# Altium footprint library PcbLib2.PcbLib: 39 footprints (part 1 of 3)
Each footprint in its own frame and in the unit in brackets; x right, y up, seen from the top. Pads: shape width x height; smd on the part's side, far side on the other; paste and mask are expansions set on the pad; w line width, h text height; cw(c..) or ccw(c..) is an arc to the next point about the centre after c.
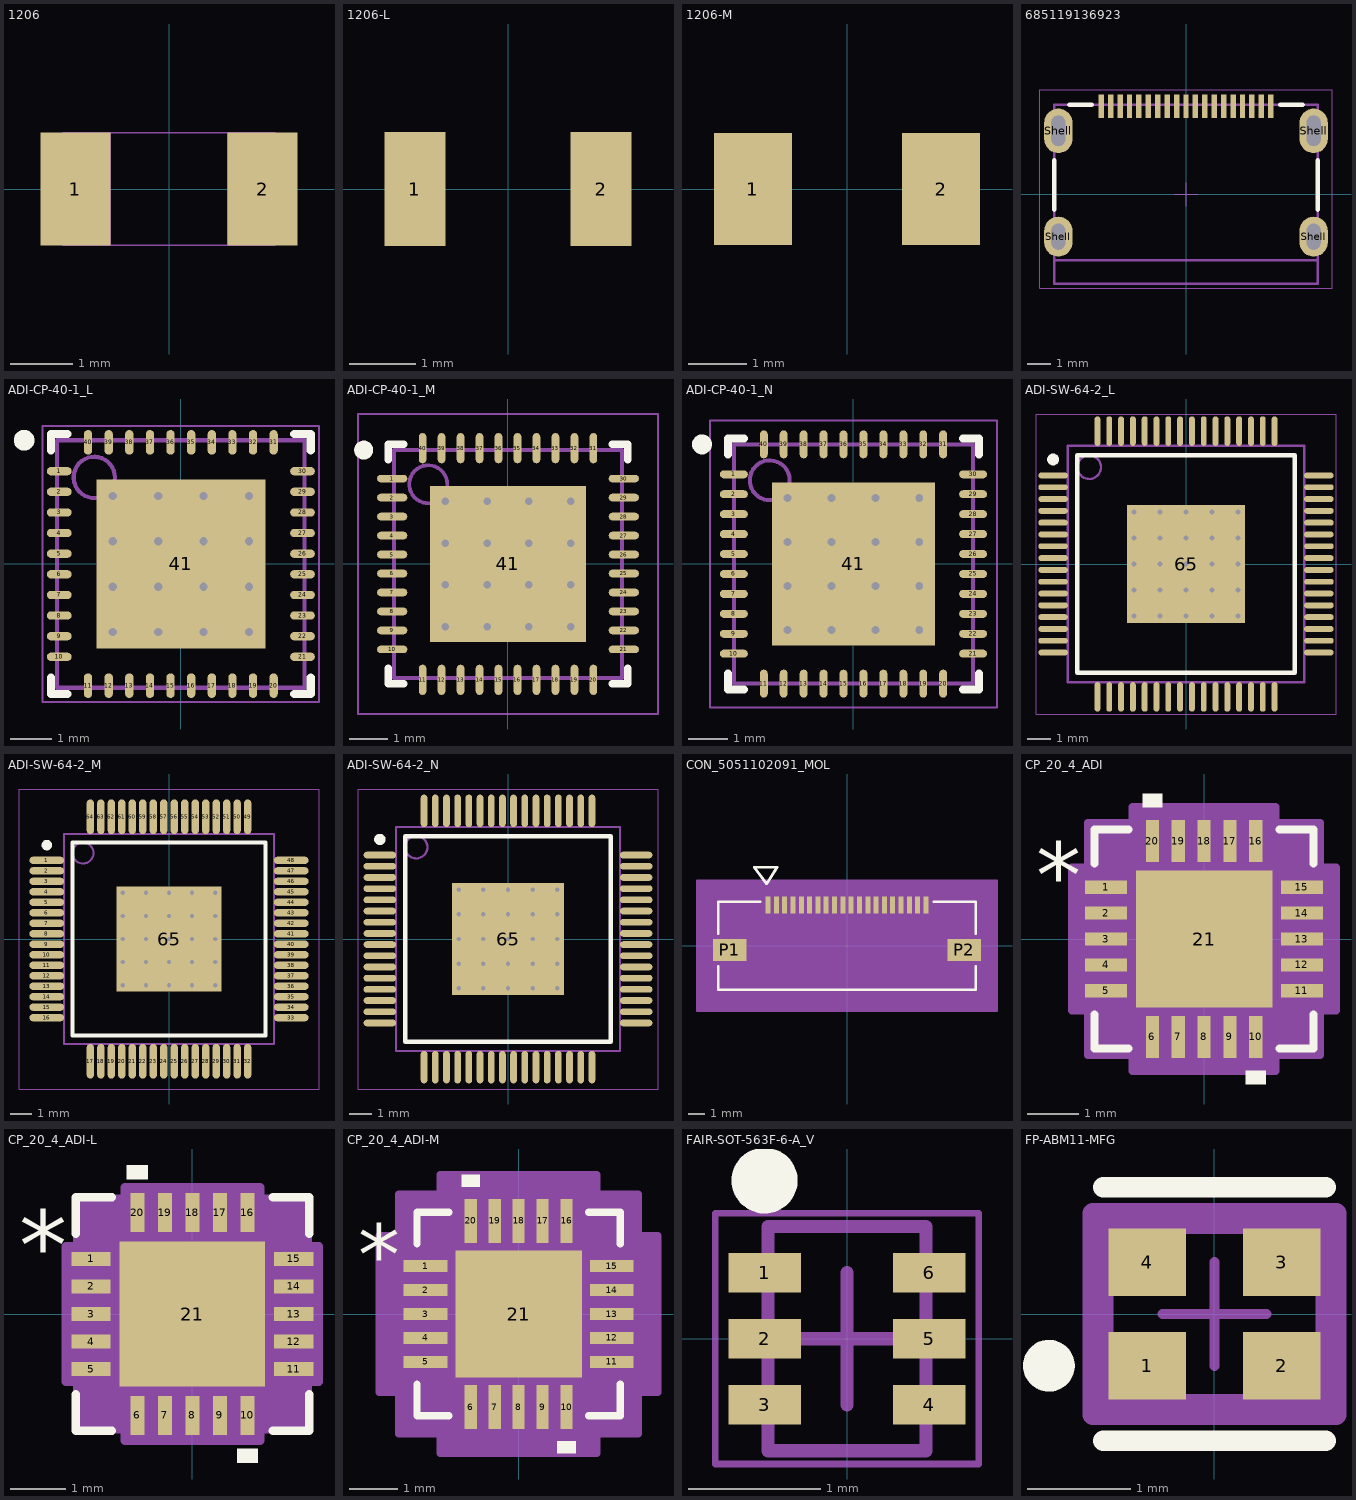
[diagram p0: the footprints below, top view; thin cyan lines are the x and y axes]

## 1206 [mil]
pads (2):
  rect 44x71 smd paste+0 mask+0: 1(-59,0) 2(59,0)
Top 3D Body:
  circle w0: c-54,0 r3
  lines w1: -67,-35.5 -67,35.5 ; -67,-35.5 67,-35.5 ; -67,-35.5 -37,-35.5 -37,35.5 -67,35.5 ; -67,-35.5 -67,35.5 ; -67,35.5 67,35.5 ; 67,-35.5 67,35.5 ; 67,-35.5 67,35.5 ; 67,-35.5 37,-35.5 37,35.5 67,35.5
3D body: height 10, standoff 0, extent 0,0 10,10
3D body "cap1206.STEP": height 67.72, standoff -0.79, extent -62.99,-33.47 62.99,33.47

## 1206-L [mil]
pads (2):
  rect 36x67 smd paste+0 mask+0: 1(-55,0) 2(55,0)
3D body: height 10, standoff 0, extent 0,0 10,10
3D body "cap1206.STEP": height 67.72, standoff -0.79, extent -62.99,-33.47 62.99,33.47

## 1206-M [mil]
pads (2):
  rect 52x75 smd paste+0 mask+0: 1(-63,0) 2(63,0)
3D body "cap1206.STEP": height 67.72, standoff -0.79, extent -62.99,-33.47 62.99,33.47
3D body: height 10, standoff 0, extent 0,0 10,10

## 685119136923 [mm] "Mini HDMI SMT Horizontal"
height 3.3
pads (23):
  rect 0.23x1 smd: 1(3.6,3.75) 2(3.2,3.75) 3(2.8,3.75) 4(2.4,3.75) 5(2,3.75) 6(1.6,3.75) 7(1.2,3.75) 8(0.8,3.75) 9(0.4,3.75) 10(0,3.75) 11(-0.4,3.75) 12(-0.8,3.75) 13(-1.2,3.75) 14(-1.6,3.75) 15(-2,3.75) 16(-2.4,3.75) 17(-2.8,3.75) 18(-3.2,3.75) 19(-3.6,3.75)
  oval 1.2x1.7 hole 0.6 slot 1.1 at 90 deg: Shell(-5.425,-1.8) Shell(5.425,-1.8)
  oval 1.2x1.9 hole 0.6 slot 1.3 at 90 deg: Shell(-5.425,2.7) Shell(5.425,2.7)
Top Overlay:
  lines w0.2: -5.6,-0.65 -5.6,1.45 ; -4.95,3.8 -4,3.8 ; 4,3.8 4.95,3.8 ; 5.6,-0.65 5.6,1.45
Mechanical 2:
  lines w0.1: -5.6,-2.8 5.6,-2.8
  text "PCB Edge" at -1.831,-3.706 h0.61
Top Designator:
  text ".Designator" at -7.498,-0.5 h1.5
Top Component Outline:
  lines w0.1: -5.6,-3.8 5.6,-3.8 5.6,3.8 -5.6,3.8 -5.6,-3.8
Top Courtyard:
  lines w0.05: -0.5,0 0.5,0 ; 0,-0.5 0,0.5 ; -6.225,-4 6.225,-4 6.225,4.45 -6.225,4.45 -6.225,-4
3D body "685119136923.stp": height 3.3, standoff -2.15, extent -5.625,-3.8 5.625,4.102

## ADI-CP-40-1_L [mm] "QFN, 40-Leads, Body 6x6mm, Pitch 0.5mm, Thermal Pad 4.1x4.1mm, IPC High Density"
height 1
pads (41):
  oval 0.6x0.2 smd: 1(-2.95,2.25) 2(-2.95,1.75) 3(-2.95,1.25) 4(-2.95,0.75) 5(-2.95,0.25) 6(-2.95,-0.25) 7(-2.95,-0.75) 8(-2.95,-1.25) 9(-2.95,-1.75) 10(-2.95,-2.25) 21(2.95,-2.25) 22(2.95,-1.75) 23(2.95,-1.25) 24(2.95,-0.75) 25(2.95,-0.25) 26(2.95,0.25) 27(2.95,0.75) 28(2.95,1.25) 29(2.95,1.75) 30(2.95,2.25)
  oval 0.2x0.6 smd: 11(-2.25,-2.95) 12(-1.75,-2.95) 13(-1.25,-2.95) 14(-0.75,-2.95) 15(-0.25,-2.95) 16(0.25,-2.95) 17(0.75,-2.95) 18(1.25,-2.95) 19(1.75,-2.95) 20(2.25,-2.95) 31(2.25,2.95) 32(1.75,2.95) 33(1.25,2.95) 34(0.75,2.95) 35(0.25,2.95) 36(-0.25,2.95) 37(-0.75,2.95) 38(-1.25,2.95) 39(-1.75,2.95) 40(-2.25,2.95)
  rect 4.1x4.1 smd: 41(0,0)
via 1.65,-1.65 diameter 0.5 hole 0.2
via 0.55,-1.65 diameter 0.5 hole 0.2
via -0.55,-1.65 diameter 0.5 hole 0.2
via -1.65,-1.65 diameter 0.5 hole 0.2
via 1.65,-0.55 diameter 0.5 hole 0.2
via 0.55,-0.55 diameter 0.5 hole 0.2
via -0.55,-0.55 diameter 0.5 hole 0.2
via -1.65,-0.55 diameter 0.5 hole 0.2
via 1.65,0.55 diameter 0.5 hole 0.2
via 0.55,0.55 diameter 0.5 hole 0.2
via -0.55,0.55 diameter 0.5 hole 0.2
via -1.65,0.55 diameter 0.5 hole 0.2
via 1.65,1.65 diameter 0.5 hole 0.2
via 0.55,1.65 diameter 0.5 hole 0.2
via -0.55,1.65 diameter 0.5 hole 0.2
via -1.65,1.65 diameter 0.5 hole 0.2
Top Overlay:
  circle w0.25: c-3.8,3 r0.125
  lines w0.2: -3.15,-2.75 -3.15,-3.15 -2.75,-3.15 ; -3.15,2.75 -3.15,3.15 -2.75,3.15 ; 2.75,-3.15 3.15,-3.15 3.15,-2.75 ; 2.75,3.15 3.15,3.15 3.15,2.75
Top 3D Body:
  circle w0.1: c-2.1,2.1 r0.5
  lines w0.1: -3,-3 3,-3 3,3 -3,3 -3,-3
Top Courtyard:
  lines w0.05: -3.35,-3.35 3.35,-3.35 3.35,3.35 -3.35,3.35 -3.35,-3.35
  lines w0.1: -0.5,0 0.5,0 ; 0,-0.5 0,0.5
3D body: height 1, standoff 0, extent -3,-3 3,3

## ADI-CP-40-1_M [mm] "QFN, 40-Leads, Body 6x6mm, Pitch 0.5mm, Thermal Pad 4.1x4.1mm, IPC Low Density"
height 1
pads (41):
  oval 0.8x0.2 smd: 1(-3.05,2.25) 2(-3.05,1.75) 3(-3.05,1.25) 4(-3.05,0.75) 5(-3.05,0.25) 6(-3.05,-0.25) 7(-3.05,-0.75) 8(-3.05,-1.25) 9(-3.05,-1.75) 10(-3.05,-2.25) 21(3.05,-2.25) 22(3.05,-1.75) 23(3.05,-1.25) 24(3.05,-0.75) 25(3.05,-0.25) 26(3.05,0.25) 27(3.05,0.75) 28(3.05,1.25) 29(3.05,1.75) 30(3.05,2.25)
  oval 0.2x0.8 smd: 11(-2.25,-3.05) 12(-1.75,-3.05) 13(-1.25,-3.05) 14(-0.75,-3.05) 15(-0.25,-3.05) 16(0.25,-3.05) 17(0.75,-3.05) 18(1.25,-3.05) 19(1.75,-3.05) 20(2.25,-3.05) 31(2.25,3.05) 32(1.75,3.05) 33(1.25,3.05) 34(0.75,3.05) 35(0.25,3.05) 36(-0.25,3.05) 37(-0.75,3.05) 38(-1.25,3.05) 39(-1.75,3.05) 40(-2.25,3.05)
  rect 4.1x4.1 smd: 41(0,0)
via -1.65,1.65 diameter 0.5 hole 0.2
via -0.55,1.65 diameter 0.5 hole 0.2
via 0.55,1.65 diameter 0.5 hole 0.2
via 1.65,1.65 diameter 0.5 hole 0.2
via -1.65,0.55 diameter 0.5 hole 0.2
via -0.55,0.55 diameter 0.5 hole 0.2
via 0.55,0.55 diameter 0.5 hole 0.2
via 1.65,0.55 diameter 0.5 hole 0.2
via -1.65,-0.55 diameter 0.5 hole 0.2
via -0.55,-0.55 diameter 0.5 hole 0.2
via 0.55,-0.55 diameter 0.5 hole 0.2
via 1.65,-0.55 diameter 0.5 hole 0.2
via -1.65,-1.65 diameter 0.5 hole 0.2
via -0.55,-1.65 diameter 0.5 hole 0.2
via 0.55,-1.65 diameter 0.5 hole 0.2
via 1.65,-1.65 diameter 0.5 hole 0.2
Top Overlay:
  circle w0.25: c-3.8,3 r0.125
  lines w0.2: -3.15,-2.75 -3.15,-3.15 -2.75,-3.15 ; -3.15,2.75 -3.15,3.15 -2.75,3.15 ; 2.75,-3.15 3.15,-3.15 3.15,-2.75 ; 2.75,3.15 3.15,3.15 3.15,2.75
Top 3D Body:
  circle w0.1: c-2.1,2.1 r0.5
  lines w0.1: -3,-3 -3,3 3,3 3,-3 -3,-3
Top Courtyard:
  lines w0.05: -3.95,-3.95 -3.95,3.95 3.95,3.95 3.95,-3.95 -3.95,-3.95
  lines w0.1: -0.5,0 0.5,0 ; 0,-0.5 0,0.5
3D body: height 1, standoff 0, extent -3,-3 3,3

## ADI-CP-40-1_N [mm] "QFN, 40-Leads, Body 6x6mm, Pitch 0.5mm, Thermal Pad 4.1x4.1mm, IPC Medium Density"
height 1
pads (41):
  oval 0.7x0.2 smd: 1(-3,2.25) 2(-3,1.75) 3(-3,1.25) 4(-3,0.75) 5(-3,0.25) 6(-3,-0.25) 7(-3,-0.75) 8(-3,-1.25) 9(-3,-1.75) 10(-3,-2.25) 21(3,-2.25) 22(3,-1.75) 23(3,-1.25) 24(3,-0.75) 25(3,-0.25) 26(3,0.25) 27(3,0.75) 28(3,1.25) 29(3,1.75) 30(3,2.25)
  oval 0.2x0.7 smd: 11(-2.25,-3) 12(-1.75,-3) 13(-1.25,-3) 14(-0.75,-3) 15(-0.25,-3) 16(0.25,-3) 17(0.75,-3) 18(1.25,-3) 19(1.75,-3) 20(2.25,-3) 31(2.25,3) 32(1.75,3) 33(1.25,3) 34(0.75,3) 35(0.25,3) 36(-0.25,3) 37(-0.75,3) 38(-1.25,3) 39(-1.75,3) 40(-2.25,3)
  rect 4.1x4.1 smd: 41(0,0)
via 1.65,-1.65 diameter 0.5 hole 0.2
via 0.55,-1.65 diameter 0.5 hole 0.2
via -0.55,-1.65 diameter 0.5 hole 0.2
via -1.65,-1.65 diameter 0.5 hole 0.2
via 1.65,-0.55 diameter 0.5 hole 0.2
via 0.55,-0.55 diameter 0.5 hole 0.2
via -0.55,-0.55 diameter 0.5 hole 0.2
via -1.65,-0.55 diameter 0.5 hole 0.2
via 1.65,0.55 diameter 0.5 hole 0.2
via 0.55,0.55 diameter 0.5 hole 0.2
via -0.55,0.55 diameter 0.5 hole 0.2
via -1.65,0.55 diameter 0.5 hole 0.2
via 1.65,1.65 diameter 0.5 hole 0.2
via 0.55,1.65 diameter 0.5 hole 0.2
via -0.55,1.65 diameter 0.5 hole 0.2
via -1.65,1.65 diameter 0.5 hole 0.2
Top Overlay:
  circle w0.25: c-3.8,3 r0.125
  lines w0.2: -3.15,-2.75 -3.15,-3.15 -2.75,-3.15 ; -3.15,2.75 -3.15,3.15 -2.75,3.15 ; 2.75,-3.15 3.15,-3.15 3.15,-2.75 ; 2.75,3.15 3.15,3.15 3.15,2.75
Top 3D Body:
  circle w0.1: c-2.1,2.1 r0.5
  lines w0.1: -3,-3 3,-3 3,3 -3,3 -3,-3
Top Courtyard:
  lines w0.05: -3.6,-3.6 3.6,-3.6 3.6,3.6 -3.6,3.6 -3.6,-3.6
  lines w0.1: -0.5,0 0.5,0 ; 0,-0.5 0,0.5
3D body: height 1, standoff 0, extent -3,-3 3,3

## ADI-SW-64-2_L [mm] "LQFP, 64-Leads, Body 10.00x10.00mm, Pitch 0.50mm, Thermal Pad 5x5mm, IPC High Density"
height 1.6
pads (65):
  oval 1.25x0.25 smd: 1(-5.625,3.75) 2(-5.625,3.25) 3(-5.625,2.75) 4(-5.625,2.25) 5(-5.625,1.75) 6(-5.625,1.25) 7(-5.625,0.75) 8(-5.625,0.25) 9(-5.625,-0.25) 10(-5.625,-0.75) 11(-5.625,-1.25) 12(-5.625,-1.75) 13(-5.625,-2.25) 14(-5.625,-2.75) 15(-5.625,-3.25) 16(-5.625,-3.75) 33(5.625,-3.75) 34(5.625,-3.25) 35(5.625,-2.75) 36(5.625,-2.25) 37(5.625,-1.75) 38(5.625,-1.25) 39(5.625,-0.75) 40(5.625,-0.25) 41(5.625,0.25) 42(5.625,0.75) 43(5.625,1.25) 44(5.625,1.75) 45(5.625,2.25) 46(5.625,2.75) 47(5.625,3.25) 48(5.625,3.75)
  oval 0.25x1.25 smd: 17(-3.75,-5.625) 18(-3.25,-5.625) 19(-2.75,-5.625) 20(-2.25,-5.625) 21(-1.75,-5.625) 22(-1.25,-5.625) 23(-0.75,-5.625) 24(-0.25,-5.625) 25(0.25,-5.625) 26(0.75,-5.625) 27(1.25,-5.625) 28(1.75,-5.625) 29(2.25,-5.625) 30(2.75,-5.625) 31(3.25,-5.625) 32(3.75,-5.625) 49(3.75,5.625) 50(3.25,5.625) 51(2.75,5.625) 52(2.25,5.625) 53(1.75,5.625) 54(1.25,5.625) 55(0.75,5.625) 56(0.25,5.625) 57(-0.25,5.625) 58(-0.75,5.625) 59(-1.25,5.625) 60(-1.75,5.625) 61(-2.25,5.625) 62(-2.75,5.625) 63(-3.25,5.625) 64(-3.75,5.625)
  rect 5x5 smd: 65(0,0)
via -2.2,2.2 diameter 0.5 hole 0.2
via -1.1,2.2 diameter 0.5 hole 0.2
via 0,2.2 diameter 0.5 hole 0.2
via 1.1,2.2 diameter 0.5 hole 0.2
via 2.2,2.2 diameter 0.5 hole 0.2
via -2.2,1.1 diameter 0.5 hole 0.2
via -1.1,1.1 diameter 0.5 hole 0.2
via 0,1.1 diameter 0.5 hole 0.2
via 1.1,1.1 diameter 0.5 hole 0.2
via 2.2,1.1 diameter 0.5 hole 0.2
via -2.2,0 diameter 0.5 hole 0.2
via -1.1,0 diameter 0.5 hole 0.2
via 0,0 diameter 0.5 hole 0.2
via 1.1,0 diameter 0.5 hole 0.2
via 2.2,0 diameter 0.5 hole 0.2
via -2.2,-1.1 diameter 0.5 hole 0.2
via -1.1,-1.1 diameter 0.5 hole 0.2
via 0,-1.1 diameter 0.5 hole 0.2
via 1.1,-1.1 diameter 0.5 hole 0.2
via 2.2,-1.1 diameter 0.5 hole 0.2
via -2.2,-2.2 diameter 0.5 hole 0.2
via -1.1,-2.2 diameter 0.5 hole 0.2
via 0,-2.2 diameter 0.5 hole 0.2
via 1.1,-2.2 diameter 0.5 hole 0.2
via 2.2,-2.2 diameter 0.5 hole 0.2
Top Overlay:
  circle w0.25: c-5.625,4.425 r0.125
  lines w0.2: -4.6,-4.6 -4.6,4.6 4.6,4.6 4.6,-4.6 -4.6,-4.6
Top 3D Body:
  circle w0.1: c-4.1,4.1 r0.5
  lines w0.1: -5,-5 -5,5 5,5 5,-5 -5,-5
Top Courtyard:
  lines w0.05: -6.35,-6.35 -6.35,6.35 6.35,6.35 6.35,-6.35 -6.35,-6.35
  lines w0.1: -0.5,0 0.5,0 ; 0,-0.5 0,0.5
3D body: height 1.6, standoff 0.05, extent -5,-5 5,5

## ADI-SW-64-2_M [mm] "LQFP, 64-Leads, Body 10.00x10.00mm, Pitch 0.50mm, Thermal Pad 5x5mm, IPC Low Density"
height 1.6
pads (65):
  oval 1.65x0.35 smd: 1(-5.825,3.75) 2(-5.825,3.25) 3(-5.825,2.75) 4(-5.825,2.25) 5(-5.825,1.75) 6(-5.825,1.25) 7(-5.825,0.75) 8(-5.825,0.25) 9(-5.825,-0.25) 10(-5.825,-0.75) 11(-5.825,-1.25) 12(-5.825,-1.75) 13(-5.825,-2.25) 14(-5.825,-2.75) 15(-5.825,-3.25) 16(-5.825,-3.75) 33(5.825,-3.75) 34(5.825,-3.25) 35(5.825,-2.75) 36(5.825,-2.25) 37(5.825,-1.75) 38(5.825,-1.25) 39(5.825,-0.75) 40(5.825,-0.25) 41(5.825,0.25) 42(5.825,0.75) 43(5.825,1.25) 44(5.825,1.75) 45(5.825,2.25) 46(5.825,2.75) 47(5.825,3.25) 48(5.825,3.75)
  oval 0.35x1.65 smd: 17(-3.75,-5.825) 18(-3.25,-5.825) 19(-2.75,-5.825) 20(-2.25,-5.825) 21(-1.75,-5.825) 22(-1.25,-5.825) 23(-0.75,-5.825) 24(-0.25,-5.825) 25(0.25,-5.825) 26(0.75,-5.825) 27(1.25,-5.825) 28(1.75,-5.825) 29(2.25,-5.825) 30(2.75,-5.825) 31(3.25,-5.825) 32(3.75,-5.825) 49(3.75,5.825) 50(3.25,5.825) 51(2.75,5.825) 52(2.25,5.825) 53(1.75,5.825) 54(1.25,5.825) 55(0.75,5.825) 56(0.25,5.825) 57(-0.25,5.825) 58(-0.75,5.825) 59(-1.25,5.825) 60(-1.75,5.825) 61(-2.25,5.825) 62(-2.75,5.825) 63(-3.25,5.825) 64(-3.75,5.825)
  rect 5x5 smd: 65(0,0)
via -2.2,2.2 diameter 0.5 hole 0.2
via -1.1,2.2 diameter 0.5 hole 0.2
via 0,2.2 diameter 0.5 hole 0.2
via 1.1,2.2 diameter 0.5 hole 0.2
via 2.2,2.2 diameter 0.5 hole 0.2
via -2.2,1.1 diameter 0.5 hole 0.2
via -1.1,1.1 diameter 0.5 hole 0.2
via 0,1.1 diameter 0.5 hole 0.2
via 1.1,1.1 diameter 0.5 hole 0.2
via 2.2,1.1 diameter 0.5 hole 0.2
via -2.2,0 diameter 0.5 hole 0.2
via -1.1,0 diameter 0.5 hole 0.2
via 0,0 diameter 0.5 hole 0.2
via 1.1,0 diameter 0.5 hole 0.2
via 2.2,0 diameter 0.5 hole 0.2
via -2.2,-1.1 diameter 0.5 hole 0.2
via -1.1,-1.1 diameter 0.5 hole 0.2
via 0,-1.1 diameter 0.5 hole 0.2
via 1.1,-1.1 diameter 0.5 hole 0.2
via 2.2,-1.1 diameter 0.5 hole 0.2
via -2.2,-2.2 diameter 0.5 hole 0.2
via -1.1,-2.2 diameter 0.5 hole 0.2
via 0,-2.2 diameter 0.5 hole 0.2
via 1.1,-2.2 diameter 0.5 hole 0.2
via 2.2,-2.2 diameter 0.5 hole 0.2
Top Overlay:
  circle w0.25: c-5.825,4.475 r0.125
  lines w0.2: -4.6,-4.6 -4.6,4.6 4.6,4.6 4.6,-4.6 -4.6,-4.6
Top 3D Body:
  circle w0.1: c-4.1,4.1 r0.5
  lines w0.1: -5,-5 -5,5 5,5 5,-5 -5,-5
Top Courtyard:
  lines w0.05: -7.15,-7.15 -7.15,7.15 7.15,7.15 7.15,-7.15 -7.15,-7.15
  lines w0.1: -0.5,0 0.5,0 ; 0,-0.5 0,0.5
3D body: height 1.6, standoff 0.05, extent -5,-5 5,5

## ADI-SW-64-2_N [mm] "LQFP, 64-Leads, Body 10.00x10.00mm, Pitch 0.50mm, Thermal Pad 5x5mm, IPC Medium Density"
height 1.6
pads (65):
  oval 1.45x0.3 smd: 1(-5.725,3.75) 2(-5.725,3.25) 3(-5.725,2.75) 4(-5.725,2.25) 5(-5.725,1.75) 6(-5.725,1.25) 7(-5.725,0.75) 8(-5.725,0.25) 9(-5.725,-0.25) 10(-5.725,-0.75) 11(-5.725,-1.25) 12(-5.725,-1.75) 13(-5.725,-2.25) 14(-5.725,-2.75) 15(-5.725,-3.25) 16(-5.725,-3.75) 33(5.725,-3.75) 34(5.725,-3.25) 35(5.725,-2.75) 36(5.725,-2.25) 37(5.725,-1.75) 38(5.725,-1.25) 39(5.725,-0.75) 40(5.725,-0.25) 41(5.725,0.25) 42(5.725,0.75) 43(5.725,1.25) 44(5.725,1.75) 45(5.725,2.25) 46(5.725,2.75) 47(5.725,3.25) 48(5.725,3.75)
  oval 0.3x1.45 smd: 17(-3.75,-5.725) 18(-3.25,-5.725) 19(-2.75,-5.725) 20(-2.25,-5.725) 21(-1.75,-5.725) 22(-1.25,-5.725) 23(-0.75,-5.725) 24(-0.25,-5.725) 25(0.25,-5.725) 26(0.75,-5.725) 27(1.25,-5.725) 28(1.75,-5.725) 29(2.25,-5.725) 30(2.75,-5.725) 31(3.25,-5.725) 32(3.75,-5.725) 49(3.75,5.725) 50(3.25,5.725) 51(2.75,5.725) 52(2.25,5.725) 53(1.75,5.725) 54(1.25,5.725) 55(0.75,5.725) 56(0.25,5.725) 57(-0.25,5.725) 58(-0.75,5.725) 59(-1.25,5.725) 60(-1.75,5.725) 61(-2.25,5.725) 62(-2.75,5.725) 63(-3.25,5.725) 64(-3.75,5.725)
  rect 5x5 smd: 65(0,0)
via -2.2,2.2 diameter 0.5 hole 0.2
via -1.1,2.2 diameter 0.5 hole 0.2
via 0,2.2 diameter 0.5 hole 0.2
via 1.1,2.2 diameter 0.5 hole 0.2
via 2.2,2.2 diameter 0.5 hole 0.2
via -2.2,1.1 diameter 0.5 hole 0.2
via -1.1,1.1 diameter 0.5 hole 0.2
via 0,1.1 diameter 0.5 hole 0.2
via 1.1,1.1 diameter 0.5 hole 0.2
via 2.2,1.1 diameter 0.5 hole 0.2
via -2.2,0 diameter 0.5 hole 0.2
via -1.1,0 diameter 0.5 hole 0.2
via 0,0 diameter 0.5 hole 0.2
via 1.1,0 diameter 0.5 hole 0.2
via 2.2,0 diameter 0.5 hole 0.2
via -2.2,-1.1 diameter 0.5 hole 0.2
via -1.1,-1.1 diameter 0.5 hole 0.2
via 0,-1.1 diameter 0.5 hole 0.2
via 1.1,-1.1 diameter 0.5 hole 0.2
via 2.2,-1.1 diameter 0.5 hole 0.2
via -2.2,-2.2 diameter 0.5 hole 0.2
via -1.1,-2.2 diameter 0.5 hole 0.2
via 0,-2.2 diameter 0.5 hole 0.2
via 1.1,-2.2 diameter 0.5 hole 0.2
via 2.2,-2.2 diameter 0.5 hole 0.2
Top Overlay:
  circle w0.25: c-5.725,4.45 r0.125
  lines w0.2: -4.6,-4.6 -4.6,4.6 4.6,4.6 4.6,-4.6 -4.6,-4.6
Top 3D Body:
  circle w0.1: c-4.1,4.1 r0.5
  lines w0.1: -5,-5 -5,5 5,5 5,-5 -5,-5
Top Courtyard:
  lines w0.05: -6.7,-6.7 -6.7,6.7 6.7,6.7 6.7,-6.7 -6.7,-6.7
  lines w0.1: -0.5,0 0.5,0 ; 0,-0.5 0,0.5
3D body: height 1.6, standoff 0.05, extent -5,-5 5,5

## CON_5051102091_MOL [mm]
pads (22):
  rect 0.3x1 smd paste+0 mask+0.025: 1(-4.75,2.45) 2(-4.25,2.45) 3(-3.75,2.45) 4(-3.25,2.45) 5(-2.75,2.45) 6(-2.25,2.45) 7(-1.75,2.45) 8(-1.25,2.45) 9(-0.75,2.45) 10(-0.25,2.45) 11(0.25,2.45) 12(0.75,2.45) 13(1.25,2.45) 14(1.75,2.45) 15(2.25,2.45) 16(2.75,2.45) 17(3.25,2.45) 18(3.75,2.45) 19(4.25,2.45) 20(4.75,2.45)
  rect 2x1.3 smd paste+0 mask+0.025: P1(-7.05,-0.25) P2(7.05,-0.25)
Top Overlay:
  lines w0.152: -7.75,-1.22 -7.75,-2.65 7.75,-2.65 7.75,-1.22 ; -7.75,0.72 -7.75,2.65 -5.22,2.65 ; 5.22,2.65 7.75,2.65 7.75,0.72 ; -5.591,4.736 -4.829,3.72 -4.194,4.736 -5.591,4.736
Top 3D Body:
  lines w0.127: -7.75,-2.65 -7.75,2.65 7.75,2.65 7.75,-2.65 -7.75,-2.65 ; -5.591,4.736 -4.829,3.72 -4.194,4.736 -5.591,4.736
Top Courtyard:
  region: 9.02,3.92 -9.02,3.92 -9.02,-3.92 9.02,-3.92
  region: 9.02,3.92 -9.02,3.92 -9.02,-3.92 9.02,-3.92
  lines w0.127: -9.02,-3.92 9.02,-3.92 ; -9.02,-3.92 -9.02,3.92 ; -9.02,-3.92 9.02,-3.92 ; -9.02,-3.92 -9.02,3.92 ; -9.02,3.92 9.02,3.92 ; -9.02,3.92 9.02,3.92 ; 9.02,-3.92 9.02,3.92 ; 9.02,-3.92 9.02,3.92

## CP_20_4_ADI [mil]
pads (21):
  rect 32x10 smd paste+0 mask+0: 1(-74.5,39.37) 2(-74.5,19.68) 3(-74.5,0) 4(-74.5,-19.68) 5(-74.5,-39.37) 11(74.5,-39.37) 12(74.5,-19.68) 13(74.5,0) 14(74.5,19.68) 15(74.5,39.37)
  rect 10x32 smd paste+0 mask+0: 6(-39.37,-74.5) 7(-19.68,-74.5) 8(0,-74.5) 9(19.68,-74.5) 10(39.37,-74.5) 16(39.37,74.5) 17(19.68,74.5) 18(0,74.5) 19(-19.68,74.5) 20(-39.37,74.5)
  rect 104x104 smd paste-52 mask+0: 21(0,0)
Top Overlay:
  region: 46.87,-100.5 31.87,-100.5 31.87,-110.5 46.87,-110.5
  region: -31.87,100.5 -46.87,100.5 -46.87,110.5 -31.87,110.5
  lines w6: -83.5,-57.47 -83.5,-83.5 -57.47,-83.5 ; -83.5,57.47 -83.5,83.5 -57.47,83.5 ; 57.47,-83.5 83.5,-83.5 83.5,-57.47 ; 57.47,83.5 83.5,83.5 83.5,57.47
  text "*" at -128,24.21 h50
Top Paste:
  region: -3.94,48.06 -48.06,48.06 -48.06,3.94 -3.94,3.94
  region: -3.94,-3.94 -48.06,-3.94 -48.06,-48.06 -3.94,-48.06
  region: 48.06,48.06 3.94,48.06 3.94,3.94 48.06,3.94
  region: 48.06,-3.94 3.94,-3.94 3.94,-48.06 48.06,-48.06
Top 3D Body:
  lines w1: -78.5,28.5 -28.5,78.5 ; -78.5,-78.5 78.5,-78.5 78.5,78.5 -78.5,78.5 -78.5,-78.5 ; -78.5,-45.37 -78.5,-33.37 -78.5,-45.37 ; -78.5,-25.68 -78.5,-13.69 -78.5,-25.68 ; -78.5,-6 -78.5,6 -78.5,-6 ; -78.5,13.69 -78.5,25.68 -78.5,13.69 ; -78.5,33.37 -78.5,45.37 -78.5,33.37 ; -45.37,-78.5 -33.37,-78.5 -45.37,-78.5 ; -45.37,78.5 -33.37,78.5 -45.37,78.5 ; -25.68,-78.5 -13.69,-78.5 -25.68,-78.5 ; -25.68,78.5 -13.69,78.5 -25.68,78.5 ; -6,-78.5 6,-78.5 -6,-78.5 ; -6,78.5 6,78.5 -6,78.5 ; 13.69,-78.5 25.68,-78.5 13.69,-78.5 ; 13.69,78.5 25.68,78.5 13.69,78.5 ; 33.37,-78.5 45.37,-78.5 33.37,-78.5 ; 33.37,78.5 45.37,78.5 33.37,78.5 ; 78.5,-45.37 78.5,-33.37 78.5,-45.37 ; 78.5,-25.68 78.5,-13.69 78.5,-25.68 ; 78.5,-6 78.5,6 78.5,-6 ; 78.5,13.69 78.5,25.68 78.5,13.69 ; 78.5,33.37 78.5,45.37 78.5,33.37
  text "*" at -71,24.21 h50
Top Courtyard:
  region: -54.37,-88.5 -88.5,-88.5 -88.5,-54.37 -100.5,-54.37 -100.5,54.37 -88.5,54.37 -88.5,88.5 -54.37,88.5 -54.37,100.5 54.37,100.5 54.37,88.5 88.5,88.5 88.5,54.37 100.5,54.37 100.5,-54.37 88.5,-54.37 88.5,-88.5 54.37,-88.5 54.37,-100.5 -54.37,-100.5
  lines w6: -100.5,-54.37 -88.5,-54.37 -88.5,-88.5 -54.37,-88.5 -54.37,-100.5 54.37,-100.5 54.37,-88.5 88.5,-88.5 88.5,-54.37 100.5,-54.37 100.5,54.37 88.5,54.37 88.5,88.5 54.37,88.5 54.37,100.5 -54.37,100.5 -54.37,88.5 -88.5,88.5 -88.5,54.37 -100.5,54.37 -100.5,-54.37
3D body "CP_20_4_ADI.step": height 39.09, standoff 0, extent -78.5,-78.5 78.5,78.5

## CP_20_4_ADI-L [mil]
pads (21):
  rect 28x10 smd paste+0 mask+0: 1(-72.5,39.37) 2(-72.5,19.68) 3(-72.5,0) 4(-72.5,-19.68) 5(-72.5,-39.37) 11(72.5,-39.37) 12(72.5,-19.68) 13(72.5,0) 14(72.5,19.68) 15(72.5,39.37)
  rect 10x28 smd paste+0 mask+0: 6(-39.37,-72.5) 7(-19.68,-72.5) 8(0,-72.5) 9(19.68,-72.5) 10(39.37,-72.5) 16(39.37,72.5) 17(19.68,72.5) 18(0,72.5) 19(-19.68,72.5) 20(-39.37,72.5)
  rect 104x104 smd paste-52 mask+0: 21(0,0)
Top Overlay:
  region: -31.87,96.5 -46.87,96.5 -46.87,106.5 -31.87,106.5
  region: 46.87,-96.5 31.87,-96.5 31.87,-106.5 46.87,-106.5
  lines w6: -83.5,-57.47 -83.5,-83.5 -57.47,-83.5 ; -83.5,57.47 -83.5,83.5 -57.47,83.5 ; 57.47,-83.5 83.5,-83.5 83.5,-57.47 ; 57.47,83.5 83.5,83.5 83.5,57.47
  text "*" at -124,24.21 h50
Top Paste:
  region: 48.06,-3.94 3.94,-3.94 3.94,-48.06 48.06,-48.06
  region: 48.06,48.06 3.94,48.06 3.94,3.94 48.06,3.94
  region: -3.94,-3.94 -48.06,-3.94 -48.06,-48.06 -3.94,-48.06
  region: -3.94,48.06 -48.06,48.06 -48.06,3.94 -3.94,3.94
Top 3D Body:
  lines w1: -78.5,28.5 -28.5,78.5 ; -78.5,-78.5 -78.5,78.5 78.5,78.5 78.5,-78.5 -78.5,-78.5 ; -78.5,-45.37 -78.5,-33.37 -78.5,-45.37 ; -78.5,-25.68 -78.5,-13.69 -78.5,-25.68 ; -78.5,-6 -78.5,6 -78.5,-6 ; -78.5,13.69 -78.5,25.68 -78.5,13.69 ; -78.5,33.37 -78.5,45.37 -78.5,33.37 ; -45.37,-78.5 -33.37,-78.5 -45.37,-78.5 ; -45.37,78.5 -33.37,78.5 -45.37,78.5 ; -25.68,-78.5 -13.69,-78.5 -25.68,-78.5 ; -25.68,78.5 -13.69,78.5 -25.68,78.5 ; -6,-78.5 6,-78.5 -6,-78.5 ; -6,78.5 6,78.5 -6,78.5 ; 13.69,-78.5 25.68,-78.5 13.69,-78.5 ; 13.69,78.5 25.68,78.5 13.69,78.5 ; 33.37,-78.5 45.37,-78.5 33.37,-78.5 ; 33.37,78.5 45.37,78.5 33.37,78.5 ; 78.5,-45.37 78.5,-33.37 78.5,-45.37 ; 78.5,-25.68 78.5,-13.69 78.5,-25.68 ; 78.5,-6 78.5,6 78.5,-6 ; 78.5,13.69 78.5,25.68 78.5,13.69 ; 78.5,33.37 78.5,45.37 78.5,33.37
  text "*" at -71,24.21 h50
Top Courtyard:
  region: -48.37,-82.5 -82.5,-82.5 -82.5,-48.37 -90.5,-48.37 -90.5,48.37 -82.5,48.37 -82.5,82.5 -48.37,82.5 -48.37,90.5 48.37,90.5 48.37,82.5 82.5,82.5 82.5,48.37 90.5,48.37 90.5,-48.37 82.5,-48.37 82.5,-82.5 48.37,-82.5 48.37,-90.5 -48.37,-90.5
  lines w6: -90.5,-48.37 -90.5,48.37 -82.5,48.37 -82.5,82.5 -48.37,82.5 -48.37,90.5 48.37,90.5 48.37,82.5 82.5,82.5 82.5,48.37 90.5,48.37 90.5,-48.37 82.5,-48.37 82.5,-82.5 48.37,-82.5 48.37,-90.5 -48.37,-90.5 -48.37,-82.5 -82.5,-82.5 -82.5,-48.37 -90.5,-48.37
3D body "CP_20_4_ADI.step": height 39.09, standoff 0, extent -78.5,-78.5 78.5,78.5

## CP_20_4_ADI-M [mil]
pads (21):
  rect 36x10 smd paste+0 mask+0: 1(-76.5,39.37) 2(-76.5,19.68) 3(-76.5,0) 4(-76.5,-19.68) 5(-76.5,-39.37) 11(76.5,-39.37) 12(76.5,-19.68) 13(76.5,0) 14(76.5,19.68) 15(76.5,39.37)
  rect 10x36 smd paste+0 mask+0: 6(-39.37,-76.5) 7(-19.68,-76.5) 8(0,-76.5) 9(19.68,-76.5) 10(39.37,-76.5) 16(39.37,76.5) 17(19.68,76.5) 18(0,76.5) 19(-19.68,76.5) 20(-39.37,76.5)
  rect 104x104 smd paste-52 mask+0: 21(0,0)
Top Overlay:
  region: -31.87,104.5 -46.87,104.5 -46.87,114.5 -31.87,114.5
  region: 46.87,-104.5 31.87,-104.5 31.87,-114.5 46.87,-114.5
  lines w6: -83.5,-57.47 -83.5,-83.5 -57.47,-83.5 ; -83.5,57.47 -83.5,83.5 -57.47,83.5 ; 57.47,-83.5 83.5,-83.5 83.5,-57.47 ; 57.47,83.5 83.5,83.5 83.5,57.47
  text "*" at -132,24.21 h50
Top Paste:
  region: 48.06,-3.94 3.94,-3.94 3.94,-48.06 48.06,-48.06
  region: 48.06,48.06 3.94,48.06 3.94,3.94 48.06,3.94
  region: -3.94,-3.94 -48.06,-3.94 -48.06,-48.06 -3.94,-48.06
  region: -3.94,48.06 -48.06,48.06 -48.06,3.94 -3.94,3.94
Top 3D Body:
  lines w1: -78.5,28.5 -28.5,78.5 ; -78.5,-78.5 -78.5,78.5 78.5,78.5 78.5,-78.5 -78.5,-78.5 ; -78.5,-45.37 -78.5,-33.37 -78.5,-45.37 ; -78.5,-25.68 -78.5,-13.69 -78.5,-25.68 ; -78.5,-6 -78.5,6 -78.5,-6 ; -78.5,13.69 -78.5,25.68 -78.5,13.69 ; -78.5,33.37 -78.5,45.37 -78.5,33.37 ; -45.37,-78.5 -33.37,-78.5 -45.37,-78.5 ; -45.37,78.5 -33.37,78.5 -45.37,78.5 ; -25.68,-78.5 -13.69,-78.5 -25.68,-78.5 ; -25.68,78.5 -13.69,78.5 -25.68,78.5 ; -6,-78.5 6,-78.5 -6,-78.5 ; -6,78.5 6,78.5 -6,78.5 ; 13.69,-78.5 25.68,-78.5 13.69,-78.5 ; 13.69,78.5 25.68,78.5 13.69,78.5 ; 33.37,-78.5 45.37,-78.5 33.37,-78.5 ; 33.37,78.5 45.37,78.5 33.37,78.5 ; 78.5,-45.37 78.5,-33.37 78.5,-45.37 ; 78.5,-25.68 78.5,-13.69 78.5,-25.68 ; 78.5,-6 78.5,6 78.5,-6 ; 78.5,13.69 78.5,25.68 78.5,13.69 ; 78.5,33.37 78.5,45.37 78.5,33.37
  text "*" at -71,24.21 h50
Top Courtyard:
  region: -64.37,-98.5 -98.5,-98.5 -98.5,-64.37 -114.5,-64.37 -114.5,64.37 -98.5,64.37 -98.5,98.5 -64.37,98.5 -64.37,114.5 64.37,114.5 64.37,98.5 98.5,98.5 98.5,64.37 114.5,64.37 114.5,-64.37 98.5,-64.37 98.5,-98.5 64.37,-98.5 64.37,-114.5 -64.37,-114.5
  lines w6: -114.5,-64.37 -114.5,64.37 -98.5,64.37 -98.5,98.5 -64.37,98.5 -64.37,114.5 64.37,114.5 64.37,98.5 98.5,98.5 98.5,64.37 114.5,64.37 114.5,-64.37 98.5,-64.37 98.5,-98.5 64.37,-98.5 64.37,-114.5 -64.37,-114.5 -64.37,-98.5 -98.5,-98.5 -98.5,-64.37 -114.5,-64.37
3D body "CP_20_4_ADI.step": height 39.09, standoff 0, extent -78.5,-78.5 78.5,78.5

## FAIR-SOT-563F-6-A_V [mm] "SOTFL, 6-Leads, Body 1.7x1.2mm, Pitch 0.5mm"
height 0.6
pads (6):
  rect 0.55x0.3 smd: 1(-0.625,0.5) 2(-0.625,0) 3(-0.625,-0.5) 4(0.625,-0.5) 5(0.625,0) 6(0.625,0.5)
Top Overlay:
  circle w0.25: c-0.625,1.2 r0.125
Top 3D Body:
  lines w0.1: -0.6,-0.85 -0.6,0.85 0.6,0.85 0.6,-0.85 -0.6,-0.85
Top Courtyard:
  lines w0.05: -1,-0.95 -1,0.95 1,0.95 1,-0.95 -1,-0.95
  lines w0.1: -0.5,0 0.5,0 ; 0,-0.5 0,0.5
3D body "SOTFL50P162X60-6L.step": height 0.6, standoff 0, extent -0.813,-0.848 0.813,0.848

## FP-ABM11-MFG [mm]
pads (4):
  rect 0.75x0.65 smd paste+0 mask+0: 1(-0.65,-0.5) 2(0.65,-0.5) 3(0.65,0.5) 4(-0.65,0.5)
Top Overlay:
  circle w0.25: c-1.6,-0.5 r0.125
  lines w0.2: -1.075,-1.225 1.075,-1.225 ; -1.075,1.225 1.075,1.225
Top Assembly:
  lines w0.2: -1.175,-0.975 1.175,-0.975 1.175,0.975 -1.175,0.975 -1.175,-0.975
  text ".Designator" at 0,0.188 h1
Top 3D Body:
  lines w0.2: -1.075,-0.875 1.075,-0.875 1.075,0.875 -1.075,0.875 -1.075,-0.875
Top Courtyard:
  lines w0.2: -1.175,-0.975 1.175,-0.975 1.175,0.975 -1.175,0.975 -1.175,-0.975
Top Component Center:
  lines w0.1: -0.5,0 0.5,0 ; 0,-0.5 0,0.5
3D body "Crys_Abracon_ABM11-44_000MHZ-B7G-T_eec.STEP": height 0.25, standoff 0, extent -1.175,-0.975 1.175,0.975